# EAGLE library part MOSFET_DUAL-P (library CougsInSpace-DiscreteSemi)
P-Channel MOSFET Array - 2
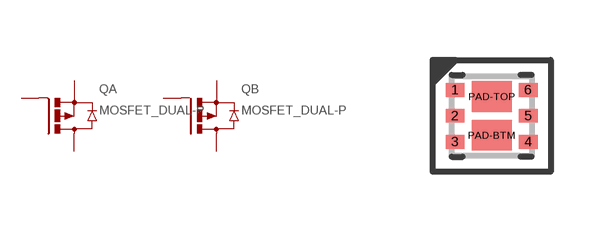
[diagram p0: symbol with the pads of UDFN-6; footprint UDFN-6]

Designator prefix Q; gates A=MOSFET-PCHANNEL B=MOSFET-PCHANNEL

## MOSFET_DUAL-P-DMP2065-UDFN-6 (CURRENT: -4.5A; RDS: 50mΩ; SKU: 56-0006; VALUE: DMP2065UFDB; VDS: -20V), MOSFET_DUAL-P-NTLUD3A50PZ-UDFN-6 (CURRENT: -2.8A; RDS: 50mΩ; SKU: 56-0004; VALUE: NTLUD3A50PZ; VDS: -20V)  [UDFN-6]
1  A:S  pas
2  A:G  pas
3  B:D  pas
4  B:S  pas
5  B:G  pas
6  A:D  pas
PAD-BTM  B:D  pas
PAD-TOP  A:D  pas

## Footprint UDFN-6 (pad centres in mm)
Ultra-Dual Flat No-Leads (UDFN) - 6 Pin
smd 0.47 x 0.35: 1 -0.915,0.65; 2 -0.915,0; 3 -0.915,-0.65; 4 0.915,-0.65; 5 0.915,0; 6 0.915,0.65
smd 1 x 0.77: PAD-BTM 0,-0.485; PAD-TOP 0,0.485